# Altium footprint library JST_B3B-XH-A(LF)(SN).PcbLib: 1 footprints
Each footprint in its own frame and in the unit in brackets; x right, y up, seen from the top. Pads: shape width x height; smd on the part's side, far side on the other; paste and mask are expansions set on the pad; w line width, h text height; cw(c..) or ccw(c..) is an arc to the next point about the centre after c.
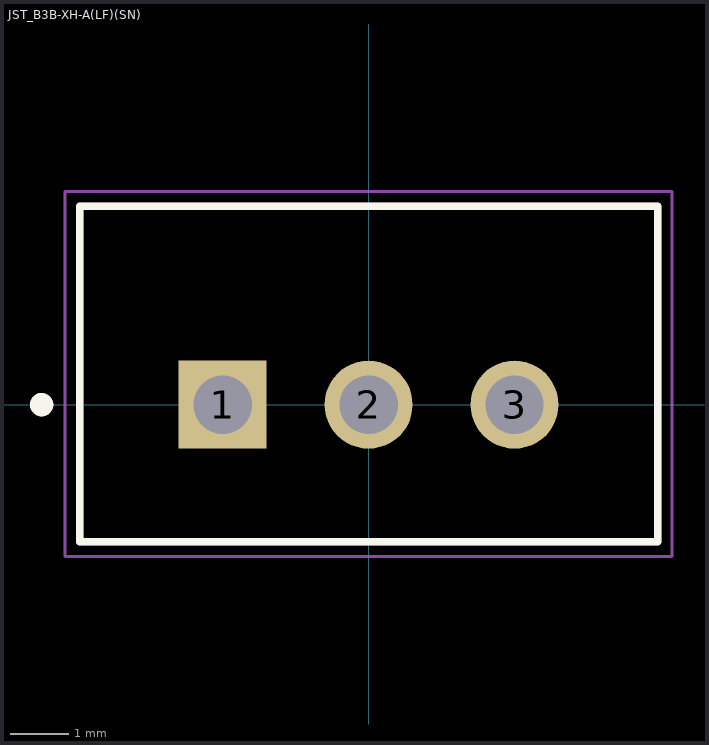
[diagram p0: the footprint, top view; thin cyan lines are the x and y axes]

## JST_B3B-XH-A(LF)(SN) [mm]
pads (3):
  rect 1.508x1.508 hole 1: 1(-2.5,0)
  round 1.508 hole 1: 2(0,0) 3(2.5,0)
Top Overlay:
  circle w0.2: c-5.6,0 r0.1
  lines w0.127: -4.95,-2.35 -4.95,3.4 4.95,3.4 4.95,-2.35 -4.95,-2.35
Mechanical 13:
  circle w0.2: c-5.6,0 r0.1
  lines w0.127: -4.95,-2.35 4.95,-2.35 4.95,3.4 -4.95,3.4 -4.95,-2.35
Mechanical 15:
  lines w0.05: -5.2,-2.6 5.2,-2.6 5.2,3.65 -5.2,3.65 -5.2,-2.6
3D body "B3B-XH-A-LF--SN---3DModel-STEP-269445.STEP": height 7, standoff -3.4, extent -4.961,-2.35 4.939,3.4